# Altium schematic symbol library SCH - DRIVER - LED - TI LM3445_D_14.SchLib: 1 symbol
Pins are listed as number, name and electrical type; pins without a type are passive.

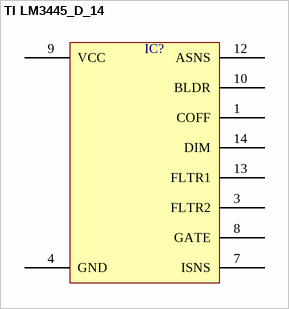
[diagram p0: symbol TI LM3445_D_14]

## TI LM3445_D_14
designator IC?  (value not drawn)
pins: 1 COFF, 3 FLTR2, 4 GND, 7 ISNS, 8 GATE, 9 VCC, 10 BLDR, 12 ASNS, 13 FLTR1, 14 DIM